# EAGLE library part AM7969* (library AMD_Taxi)
AMD Taxi Chip Receiver
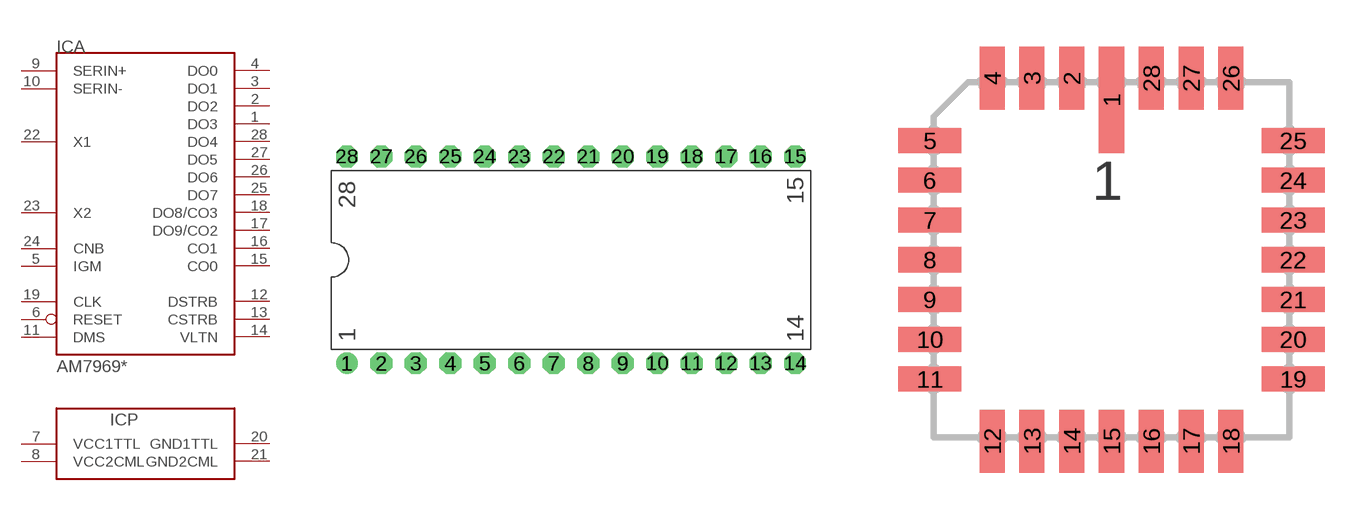
[diagram p7: symbol with the pads of DIP28-6; footprints DIP28-6, LCC28]

Designator prefix IC; gates A=AM7969 P=AM7969PW

## AM7969-125PC, AM7969-175PC  [DIP28-6]
1  A:DO3  out
2  A:DO2  out
3  A:DO1  out
4  A:DO0  out
5  A:IGM  out
6  A:RESET  in
7  P:VCC1TTL  pwr
8  P:VCC2CML  pwr
9  A:SERIN+  in
10  A:SERIN-  in
11  A:DMS  in
12  A:DSTRB  out
13  A:CSTRB  out
14  A:VLTN  out
15  A:CO0  out
16  A:CO1  out
17  A:DO9/CO2  out
18  A:DO8/CO3  out
19  A:CLK  out
20  P:GND1TTL  pwr
21  P:GND2CML  pwr
22  A:X1  in
23  A:X2  in
24  A:CNB  in
25  A:DO7  out
26  A:DO6  out
27  A:DO5  out
28  A:DO4  out

## AM7969-125DC, AM7969-175DC  [DIP28-6]
Pads as for DIP28-6

## AM7969-125/DKC  [DIP28-6]
Pads as for DIP28-6

## AM7969-125/DMC  [DIP28-6]
Pads as for DIP28-6

## AM7969-125/LKC  [LCC28]
Pads as for DIP28-6

## AM7969-125/LMC  [LCC28]
Pads as for DIP28-6

## AM7969-125JC, AM7969-175JC  [PLCC28S]
Pads as for DIP28-6

## Footprint DIP28-6 (pad centres in mm)
drill 0.406 pad 1.6 round: 1 -16.51,-7.62
drill 0.406 pad 1.6 octagon: 2 -13.97,-7.62; 3 -11.43,-7.62; 4 -8.89,-7.62; 5 -6.35,-7.62; 6 -3.81,-7.62; 7 -1.27,-7.62; 8 1.27,-7.62; 9 3.81,-7.62; 10 6.35,-7.62; 11 8.89,-7.62; 12 11.43,-7.62; 13 13.97,-7.62; 14 16.51,-7.62; 15 16.51,7.62; 16 13.97,7.62; 17 11.43,7.62; 18 8.89,7.62; 19 6.35,7.62; 20 3.81,7.62; 21 1.27,7.62; 22 -1.27,7.62; 23 -3.81,7.62; 24 -6.35,7.62; 25 -8.89,7.62; 26 -11.43,7.62; 27 -13.97,7.62; 28 -16.51,7.62

## Footprint LCC28 (pad centres in mm)
smd 0.8 x 3.4: 1 0,5.1
smd 0.8 x 2: 2 -1.27,5.8; 3 -2.54,5.8; 4 -3.81,5.8; 12 -3.81,-5.8; 13 -2.54,-5.8; 14 -1.27,-5.8; 15 0,-5.8; 16 1.27,-5.8; 17 2.54,-5.8; 18 3.81,-5.8; 26 3.81,5.8; 27 2.54,5.8; 28 1.27,5.8
smd 2 x 0.8: 5 -5.8,3.81; 6 -5.8,2.54; 7 -5.8,1.27; 8 -5.8,0; 9 -5.8,-1.27; 10 -5.8,-2.54; 11 -5.8,-3.81; 19 5.8,-3.81; 20 5.8,-2.54; 21 5.8,-1.27; 22 5.8,0; 23 5.8,1.27; 24 5.8,2.54; 25 5.8,3.81

## Footprint PLCC28S (pad centres in mm)
smd 0.6 x 2.2: 1 0,5.6; 2 -1.27,5.6; 3 -2.54,5.6; 4 -3.81,5.6; 12 -3.81,-5.6; 13 -2.54,-5.6; 14 -1.27,-5.6; 15 0,-5.6; 16 1.27,-5.6; 17 2.54,-5.6; 18 3.81,-5.6; 26 3.81,5.6; 27 2.54,5.6; 28 1.27,5.6
smd 2.2 x 0.6: 5 -5.6,3.81; 6 -5.6,2.54; 7 -5.6,1.27; 8 -5.6,0; 9 -5.6,-1.27; 10 -5.6,-2.54; 11 -5.6,-3.81; 19 5.6,-3.81; 20 5.6,-2.54; 21 5.6,-1.27; 22 5.6,0; 23 5.6,1.27; 24 5.6,2.54; 25 5.6,3.81